# Altium integrated library Analog Devices Data Converters Analog-to-Digital Converters.IntLib: 2404 symbols (part 321 of 346)
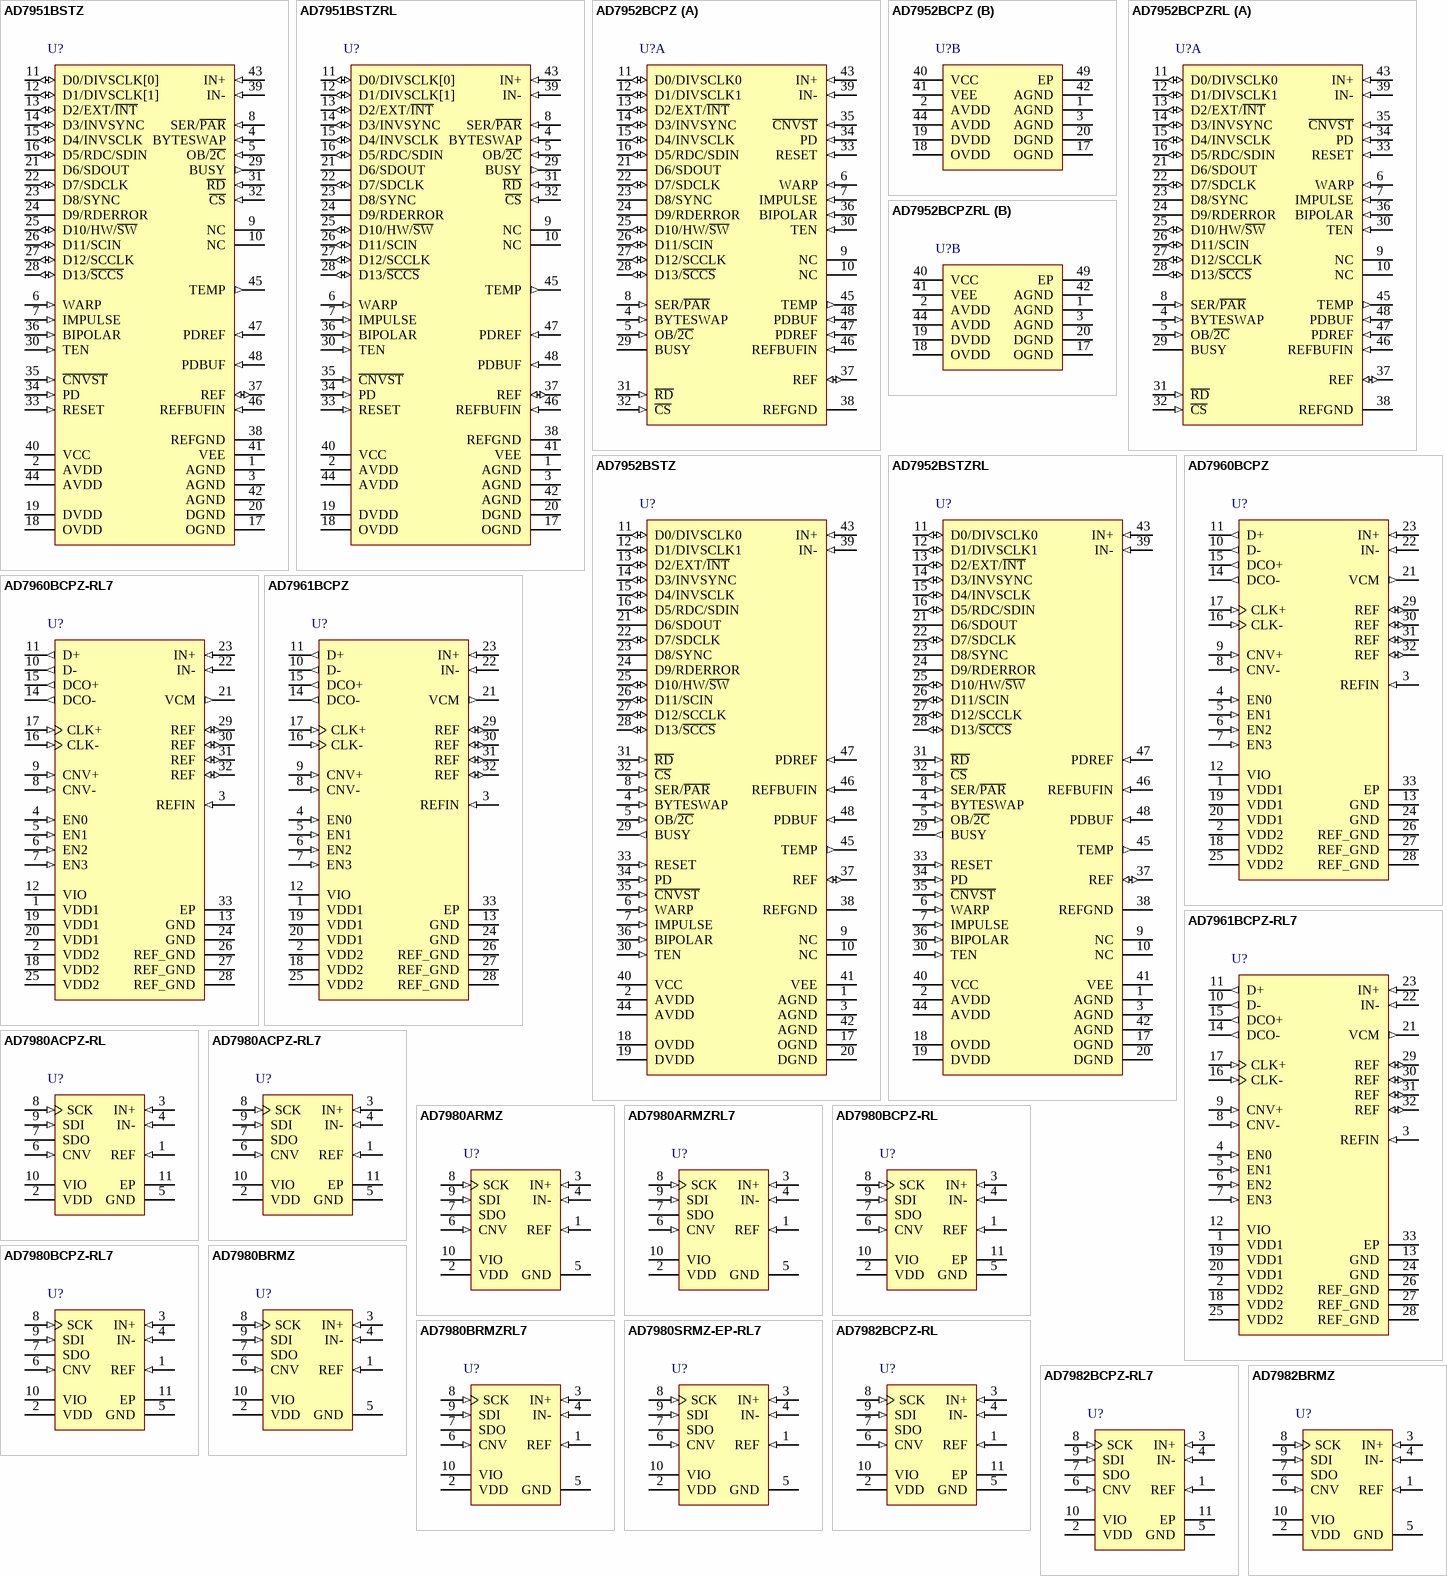
[diagram p327: symbols AD7951BSTZ to AD7982BRMZ]

## AD7952BCPZRL
designator U?
Single 14-Bit PulSAR Analog-to-Digital Converter with Parallel, Serial, SPI Interface, 1MSPS, -40 to +85 degC, CP-48-1, Pb-Free, Reel; Generic Part Number: AD7952; Manufacturer: Analog Devices; PartNumber: AD7952BCPZRL; Resolution (Bits): 14; Channels: 1; Throughput Rate (SPS): 1M; Interface: Par, Ser, SPI; DatasheetVersion: Rev.0; PackageVersion: Jan-2005; PackageReference: CP-48-1; PackageDescription: 48-Lead Lead Frame Chip Scale Package [LFCSP_VQ] 7 x 7 mm Body, Very Thin Quad; Supplier 1: Digi-Key; Supplier Part Number 1: AD7952BCPZRL-ND; Supplier 2: Mouser; Supplier Part Number 2: 584-AD7952BCPZR; RoHS: Y; Packing: Reel; Mounting Technology: Surface Mount; Code_JEDEC: MO-220-VKKD-2; ComponentLink1Description: Manufacturer URL; ComponentLink1URL: http://www.analog.com/en/index.html; ComponentLink2Description: Datasheet; ComponentLink2URL: http://www.analog.com/static/imported-files/data_sheets/AD7952.pdf; ComponentLink3Description: Package Specification; ComponentLink3URL: http://www.analog.com/static/imported-files/packages/PKG_PDF/LFCSP(CP)/CP-48/CP_48_1.pdf; ComponentLink4Description: Product URL; ComponentLink4URL: http://www.analog.com/en/analog-to-digital-converters/ad-converters/ad7952/products/product.html
footprint CP-48-1_N (QFN, 48-Leads, Body 7x7mm, Pitch 0.5mm, Thermal Pad 5.1x5.1mm, IPC Medium Density)
footprint CP-48-1_L (QFN, 48-Leads, Body 7x7mm, Pitch 0.5mm, Thermal Pad 5.1x5.1mm, IPC High Density)
footprint CP-48-1_M (QFN, 48-Leads, Body 7x7mm, Pitch 0.5mm, Thermal Pad 5.1x5.1mm, IPC Low Density)
part A pins: 4 BYTESWAP (in) "Parallel Mode Selection (8 Bit/14 Bit). When high, the LSB is output on D[15:8] and the MSB is output on D[7:0]; when low, the LSB is output on D[7:0] and the MSB is output on D[15:8].", 5 OB/~{2C} (in) "Straight Binary/Binary Twos Complement Output. When high, the digital output is straight binary. When low, the MSB is inverted resulting in a twos complement output from its internal shift register.", 6 WARP (in) "Conversion Mode Selection.", 7 IMPULSE (in) "Conversion Mode Selection. See the WARP pin description in this table. See the Modes of Operation section for a more detailed description.", 8 SER/~{PAR} (in) "Serial/Parallel Selection Input. When SER/P\A\R\ = low, the parallel mode is selected. When SER/P\A\R\ = high, the serial modes are selected. Some bits of the data bus are used as a serial port, and the remaining data bits (See Datasheet)", 9 NC "No Connect. Do not connect.", 10 NC "No Connect. Do not connect.", 11 D0/DIVSCLK0 (io) "In parallel mode, these outputs are used as Bit 0 of the parallel port data output bus. Serial Data Division Clock Selection. In serial master read after convert mode (SER/P\A\R\ = high, EXT/I\N\T\ = low, RDC/SDIN = low), (See Datasheet)", 12 D1/DIVSCLK1 (io) "In parallel mode, these outputs are used as Bit 1 of the parallel port data output bus. Serial Data Division Clock Selection. In serial master read after convert mode (SER/P\A\R\ = high, EXT/I\N\T\ = low, RDC/SDIN = low), (See Datasheet)", 13 D2/EXT/~{INT} (io) "In parallel mode, this output is used as Bit 2 of the parallel port data output bus. Serial Data Clock Source Select. In serial mode, this input is used to select the internally generated (master) or external (slave) serial (See Datasheet)", 14 D3/INVSYNC (io) "In parallel mode, this output is used as Bit 3 of the parallel port data output bus. Serial Data Invert Sync Select. In serial master mode (SER/P\A\R\ = high, EXT/I\N\T\ = low), this input is used to select the active state (See Datasheet)", 15 D4/INVSCLK (io) "In parallel mode, this output is used as Bit 4 of the parallel port data output bus. In all serial modes, invert SDCLK/SCCLK select. This input is used to invert both SDCLK and SCCLK. When INVSCLK = low, the rising edge of (See Datasheet)", 16 D5/RDC/SDIN (io) "In parallel mode, this output is used as Bit 5 of the parallel port data output bus. Serial Data Read During Convert. In serial master mode (SER/P\A\R\ = high, EXT/I\N\T\ = low), RDC is used to select the read mode. Refer to (See Datasheet)", 21 D6/SDOUT (hiz) "In parallel mode, this output is used as Bit 6 of the parallel port data output bus. Serial Data Output. In all serial modes, this pin is used as the serial data output synchronized to SDCLK.Conversion results are stored in (See Datasheet)", 22 D7/SDCLK (io) "In parallel mode, this output is used as Bit 7 of the parallel port data output bus. Serial Data Clock. In all serial modes, this pin is used as the serial data clock input or output, dependent on the logic state of the (See Datasheet)", 23 D8/SYNC (hiz) "In parallel mode, this output is used as Bit 8 of the parallel port data output bus. Serial Data Frame Synchronization. In serial master mode (SER/P\A\R\ = high, EXT/I\N\T\= low), this output is used as a digital output (See Datasheet)", 24 D9/RDERROR (hiz) "In parallel mode, this output is used as Bit 9 of the parallel port data output bus. Serial Data Read Error. In serial slave mode (SER/P\A\R\ = high, EXT/I\N\T\ = high), this output is used as an incomplete data read error (See Datasheet)", 25 D10/HW/~{SW} (io) "In parallel mode, this output is used as Bit 10 of the parallel port data output bus. Serial Configuration Hardware/Software Select. In serial mode, this input is used to configure the AD7952 by hardware or software. See the (See Datasheet)", 26 D11/SCIN (io) "In parallel mode, this output is used as Bit 11 of the parallel port data output bus. Serial Configuration Data Input. In serial software configuration mode (SER/P\A\R\ = high, HW/S\W\ = low),this input is used to serially (See Datasheet)", 27 D12/SCCLK (io) "In parallel mode, this output is used as Bit 12 of the parallel port data output bus. Serial Configuration Clock. In serial software configuration mode (SER/P\A\R\ = high, HW/S\W\ = low), this input is used to clock in the (See Datasheet)", 28 D13/~{SCCS} (io) "In parallel mode, this output is used as Bit 13 of the parallel port data output bus. Serial Configuration Chip Select. In serial software configuration mode (SER/P\A\R\ = high, HW/S\W\ = low), this input enables the serial (See Datasheet)", 29 BUSY (hiz) "Busy Output. Transitions high when a conversion is started and remains high until the conversion is completed and the data is latched into the on-chip shift register. The falling edge of BUSY can be used as a data-ready (See Datasheet)", 30 TEN (in) "Input Range Select.", 31 ~{RD} (in) "Read Data. When C\S\ and R\D\ are both low, the interface parallel or serial output bus is enabled.", 32 ~{CS} (in) "Chip Select. When C\S\ and R\D\ are both low, the interface parallel or serial output bus is enabled. C\S\ is also used to gate the external clock in slave serial mode (not used for serial configurable port).", 33 RESET (in) "Reset Input. When high, reset the AD7952. Current conversion, if any, is aborted. The falling edge of RESET resets the data outputs to all zeros (with OB/2\C\ = high) and clears the configuration register. See the Digital (See Datasheet)", 34 PD (in) "Power-Down Input. When PD = high, powers down the ADC. Power consumption is reduced and conversions are inhibited after the current one is completed. The digital interface remains active during power-down.", 35 ~{CNVST} (in) "Conversion Start. A falling edge on C\N\V\S\T\ puts the internal sample-and-hold into the hold state and initiates a conversion.", 36 BIPOLAR (in) "Input Range Select. See description for Pin 30.", 37 REF (io) "Reference Input/Output. When PDREF/PDBUF = low, the internal reference and buffer are enabled, producing 5 V on this pin. When PDREF/PDBUF = high, the internal reference and buffer are disabled, allowing an externally (See Datasheet)", 38 REFGND (power) "Reference Input Analog Ground. Connected to analog ground plane.", 39 IN- (in) "Analog Input. Referenced to IN+. In the 0 V to 5 V input range, IN- is between 0 V and VREF V centered about VREF/2. In the 0 V to 10 V range, IN- is between 0 V and 2 VREF V centered about VREF. In the +/-5 V and +/-10 V (See Datasheet)", 43 IN+ (in) "Analog Input. Referenced to IN-. In the 0 V to 5 V input range, IN+ is between 0 V and VREF V centered about VREF/2. In the 0 V to 10 V range, IN+ is between 0 V and 2 VREF V centered about VREF. In the +/-5 V and +/-10 V (See Datasheet)", 45 TEMP (out) "Temperature Sensor Analog Output. When the internal reference is enabled (PDREF = PDBUF = low), this pin outputs a voltage proportional to the temperature of the AD7952. See the Temperature Sensorsection.", 46 REFBUFIN (in) "Reference Buffer Input. When using an external reference with the internal reference buffer (PDBUF = low, PDREF = high), applying 2.5 V on this pin produces 5 V on the REF pin. See the Single-to-Differential Driver section.", 47 PDREF (in) "Internal Reference Power-Down Input. When low, the internal reference is enabled. When high, the internal reference is powered down, and an external reference must be used.", 48 PDBUF (in) "Internal Reference Buffer Power-Down Input. When low, the buffer is enabled (must be low when using internal reference). When high, the buffer is powered down."
part B pins: 1 AGND (power) "Analog Power Ground Pins. Ground reference point for all analog I/O. All analog I/O should be referenced to AGND and should be connected to the analog ground plane of the system. In addition, the AGND, DGND, and OGND (See Datasheet)", 2 AVDD (power) "Analog Power Pins. Nominally 4.75 V to 5.25 V and decoupled with 10 uF and 100 nF capacitors.", 3 AGND (power) "Analog Power Ground Pins. Ground reference point for all analog I/O. All analog I/O should be referenced to AGND and should be connected to the analog ground plane of the system. In addition, the AGND, DGND, and OGND (See Datasheet)", 17 OGND (power) "Input/Output Interface Digital Power Ground. Ground reference point for digital outputs. Should be connected to the system digital ground ideally at the same potential as AGND and DGND.", 18 OVDD (power) "Input/Output Interface Digital Power. Nominally at the same supply as the supply of the host interface 2.5 V, 3 V, or 5 V and decoupled with 10 uF and 100 nF capacitors.", 19 DVDD (power) "Digital Power. Nominally at 4.75 V to 5.25 V and decoupled with 10 uF and 100 nF capacitors. Can be supplied from AVDD.", 20 DGND (power) "Digital Power Ground. Ground reference point for digital outputs. Should be connected to system digital ground ideally at the same potential as AGND and OGND.", 40 VCC (power) "High Voltage Positive Supply. Normally 7 V to 15 V.", 41 VEE (power) "High Voltage Negative Supply. Normally 0 V to -15 V (0 V in unipolar ranges).", 42 AGND (power) "Analog Power Ground Pins. Ground reference point for all analog I/O. All analog I/O should be referenced to AGND and should be connected to the analog ground plane of the system. In addition, the AGND, DGND, and OGND (See Datasheet)", 44 AVDD (power) "Analog Power Pins. Nominally 4.75 V to 5.25 V and decoupled with 10 uF and 100 nF capacitors.", 49 EP (power) "Paddle connected to VEE. This connection is not required to meet the electrical performances."

## AD7952BSTZ
designator U?
Single 14-Bit PulSAR Analog-to-Digital Converter with Parallel, Serial, SPI Interface, 1MSPS, -40 to +85 degC, ST-48, Pb-Free, Tray; Generic Part Number: AD7952; Manufacturer: Analog Devices; PartNumber: AD7952BSTZ; Resolution (Bits): 14; Channels: 1; Throughput Rate (SPS): 1M; Interface: Par, Ser, SPI; DatasheetVersion: Rev.0; PackageVersion: revA; PackageReference: ST-48; PackageDescription: 48-Pin Thin Quad Flat Pack 0.5 mm Pitch; Supplier 1: Digi-Key; Supplier Part Number 1: AD7952BSTZ-ND; Supplier 2: Mouser; Supplier Part Number 2: 584-AD7952BSTZ; RoHS: Y; Packing: Tray; Mounting Technology: Surface Mount; ComponentLink1Description: Manufacturer URL; ComponentLink1URL: http://www.analog.com/en/index.html; ComponentLink2Description: Datasheet; ComponentLink2URL: http://www.analog.com/static/imported-files/data_sheets/AD7952.pdf; ComponentLink3Description: Package Specification; ComponentLink3URL: http://www.analog.com/static/imported-files/packages/PKG_PDF/LQFP%28ST%29/ST_48.pdf; ComponentLink4Description: Product URL; ComponentLink4URL: http://www.analog.com/en/analog-to-digital-converters/ad-converters/ad7952/products/product.html
footprint ST-48_N (Thin QFP, 48-Leads, Body 7x7mm, Pitch 0.5mm, IPC Medium Density)
footprint ST-48_L (Thin QFP, 48-Leads, Body 7x7mm, Pitch 0.5mm, IPC High Density)
footprint ST-48_M (Thin QFP, 48-Leads, Body 7x7mm, Pitch 0.5mm, IPC Low Density)
pins: 1 AGND (power) "Analog Power Ground Pins. Ground reference point for all analog I/O. All analog I/O should be referenced to AGND and should be connected to the analog ground plane of the system. In addition, the AGND, DGND, and OGND (See Datasheet)", 2 AVDD (power) "Analog Power Pins. Nominally 4.75 V to 5.25 V and decoupled with 10 uF and 100 nF capacitors.", 3 AGND (power) "Analog Power Ground Pins. Ground reference point for all analog I/O. All analog I/O should be referenced to AGND and should be connected to the analog ground plane of the system. In addition, the AGND, DGND, and OGND (See Datasheet)", 4 BYTESWAP (in) "Parallel Mode Selection (8 Bit/14 Bit). When high, the LSB is output on D[15:8] and the MSB is output on D[7:0]; when low, the LSB is output on D[7:0] and the MSB is output on D[15:8].", 5 OB/~{2C} (in) "Straight Binary/Binary Twos Complement Output. When high, the digital output is straight binary. When low, the MSB is inverted resulting in a twos complement output from its internal shift register.", 6 WARP (in) "Conversion Mode Selection.", 7 IMPULSE (in) "Conversion Mode Selection. See the WARP pin description in this table. See the Modes of Operation section for a more detailed description.", 8 SER/~{PAR} (in) "Serial/Parallel Selection Input. When SER/P\A\R\ = low, the parallel mode is selected. When SER/P\A\R\ = high, the serial modes are selected. Some bits of the data bus are used as a serial port, and the remaining data bits (See Datasheet)", 9 NC "No Connect. Do not connect.", 10 NC "No Connect. Do not connect.", 11 D0/DIVSCLK0 (io) "In parallel mode, these outputs are used as Bit 0 and Bit 1 of the parallel port data output bus. Serial Data Division Clock Selection. In serial master read after convert mode (SER/P\A\R\ = high, EXT/I\N\T\ = low, RDC/SDIN (See Datasheet)", 12 D1/DIVSCLK1 (io) "In parallel mode, these outputs are used as Bit 0 and Bit 1 of the parallel port data output bus. Serial Data Division Clock Selection. In serial master read after convert mode (SER/P\A\R\ = high, EXT/I\N\T\ = low, RDC/SDIN (See Datasheet)", 13 D2/EXT/~{INT} (io) "In parallel mode, this output is used as Bit 2 of the parallel port data output bus. Serial Data Clock Source Select. In serial mode, this input is used to select the internally generated (master) or external (slave) serial (See Datasheet)", 14 D3/INVSYNC (io) "In parallel mode, this output is used as Bit 3 of the parallel port data output bus. Serial Data Invert Sync Select. In serial master mode (SER/P\A\R\ = high, EXT/I\N\T\ = low), this input is used to select the active state (See Datasheet)", 15 D4/INVSCLK (io) "In parallel mode, this output is used as Bit 4 of the parallel port data output bus. In all serial modes, invert SDCLK/SCCLK select. This input is used to invert both SDCLK and SCCLK. When INVSCLK = low, the rising edge of (See Datasheet)", 16 D5/RDC/SDIN (io) "In parallel mode, this output is used as Bit 5 of the parallel port data output bus. Serial Data Read During Convert. In serial master mode (SER/P\A\R\ = high, EXT/I\N\T\ = low), RDC is used to select the read mode. Refer to (See Datasheet)", 17 OGND (power) "Input/Output Interface Digital Power Ground. Ground reference point for digital outputs. Should be connected to the system digital ground ideally at the same potential as AGND and DGND.", 18 OVDD (power) "Input/Output Interface Digital Power. Nominally at the same supply as the supply of the host interface 2.5 V, 3 V, or 5 V and decoupled with 10 uF and 100 nF capacitors.", 19 DVDD (power) "Digital Power. Nominally at 4.75 V to 5.25 V and decoupled with 10 uF and 100 nF capacitors. Can be supplied from AVDD.", 20 DGND (power) "Digital Power Ground. Ground reference point for digital outputs. Should be connected to system digital ground ideally at the same potential as AGND and OGND.", 21 D6/SDOUT (hiz) "In parallel mode, this output is used as Bit 6 of the parallel port data output bus. Serial Data Output. In all serial modes, this pin is used as the serial data output synchronized to SDCLK.Conversion results are stored in (See Datasheet)", 22 D7/SDCLK (io) "In parallel mode, this output is used as Bit 7 of the parallel port data output bus. Serial Data Clock. In all serial modes, this pin is used as the serial data clock input or output, dependent on the logic state of the (See Datasheet)", 23 D8/SYNC (hiz) "In parallel mode, this output is used as Bit 8 of the parallel port data output bus. Serial Data Frame Synchronization. In serial master mode (SER/P\A\R\ = high, EXT/I\N\T\= low), this output is used as a digital output (See Datasheet)", 24 D9/RDERROR (hiz) "In parallel mode, this output is used as Bit 9 of the parallel port data output bus. Serial Data Read Error. In serial slave mode (SER/P\A\R\ = high, EXT/I\N\T\ = high), this output is used as an incomplete data read error (See Datasheet)", 25 D10/HW/~{SW} (io) "In parallel mode, this output is used as Bit 10 of the parallel port data output bus. Serial Configuration Hardware/Software Select. In serial mode, this input is used to configure the AD7952 by hardware or software. See the (See Datasheet)", 26 D11/SCIN (io) "In parallel mode, this output is used as Bit 11 of the parallel port data output bus. Serial Configuration Data Input. In serial software configuration mode (SER/P\A\R\ = high, HW/S\W\ = low),this input is used to serially (See Datasheet)", 27 D12/SCCLK (io) "In parallel mode, this output is used as Bit 12 of the parallel port data output bus. Serial Configuration Clock. In serial software configuration mode (SER/P\A\R\ = high, HW/S\W\ = low), this input is used to clock in the (See Datasheet)", 28 D13/~{SCCS} (io) "In parallel mode, this output is used as Bit 13 of the parallel port data output bus. Serial Configuration Chip Select. In serial software configuration mode (SER/P\A\R\ = high, HW/S\W\ = low), this input enables the serial (See Datasheet)", 29 BUSY (out) "Busy Output. Transitions high when a conversion is started and remains high until the conversion is completed and the data is latched into the on-chip shift register. The falling edge of BUSY can be used as a data-ready (See Datasheet)", 30 TEN (in) "Input Range Select.", 31 ~{RD} (in) "Read Data. When C\S\ and R\D\ are both low, the interface parallel or serial output bus is enabled.", 32 ~{CS} (in) "Chip Select. When C\S\ and R\D\ are both low, the interface parallel or serial output bus is enabled. C\S\ is also used to gate the external clock in slave serial mode (not used for serial configurable port).", 33 RESET (in) "Reset Input. When high, reset the AD7952. Current conversion, if any, is aborted. The falling edge of RESET resets the data outputs to all zeros (with OB/2\C\ = high) and clears the configuration register. See the Digital (See Datasheet)", 34 PD (in) "Power-Down Input. When PD = high, powers down the ADC. Power consumption is reduced and conversions are inhibited after the current one is completed. The digital interface remains active during power-down.", 35 ~{CNVST} (in) "Conversion Start. A falling edge on C\N\V\S\T\ puts the internal sample-and-hold into the hold state and initiates a conversion.", 36 BIPOLAR (in) "Input Range Select. See description for Pin 30.", 37 REF (io) "Reference Input/Output. When PDREF/PDBUF = low, the internal reference and buffer are enabled, producing 5 V on this pin. When PDREF/PDBUF = high, the internal reference and buffer are disabled, allowing an externally (See Datasheet)", 38 REFGND (power) "Reference Input Analog Ground. Connected to analog ground plane.", 39 IN- (in) "Analog Input. Referenced to IN+. In the 0 V to 5 V input range, IN- is between 0 V and VREF V centered about VREF/2. In the 0 V to 10 V range, IN- is between 0 V and 2 VREF V centered about VREF. In the +/-5 V and +/-10 V (See Datasheet)", 40 VCC (power) "High Voltage Positive Supply. Normally 7 V to 15 V.", 41 VEE (power) "High Voltage Negative Supply. Normally 0 V to -15 V (0 V in unipolar ranges).", 42 AGND (power) "Analog Power Ground Pins. Ground reference point for all analog I/O. All analog I/O should be referenced to AGND and should be connected to the analog ground plane of the system. In addition, the AGND, DGND, and OGND (See Datasheet)", 43 IN+ (in) "Analog Input. Referenced to IN-. In the 0 V to 5 V input range, IN+ is between 0 V and VREF V centered about VREF/2. In the 0 V to 10 V range, IN+ is between 0 V and 2 VREF V centered about VREF. In the +/-5 V and +/-10 V (See Datasheet)", 44 AVDD (power) "Analog Power Pins. Nominally 4.75 V to 5.25 V and decoupled with 10 uF and 100 nF capacitors.", 45 TEMP (out) "Temperature Sensor Analog Output. When the internal reference is enabled (PDREF = PDBUF = low), this pin outputs a voltage proportional to the temperature of the AD7952. See the Temperature Sensorsection.", 46 REFBUFIN (in) "Reference Buffer Input. When using an external reference with the internal reference buffer (PDBUF = low, PDREF = high), applying 2.5 V on this pin produces 5 V on the REF pin. See the Single-to-Differential Driver section.", 47 PDREF (in) "Internal Reference Power-Down Input. When low, the internal reference is enabled. When high, the internal reference is powered down, and an external reference must be used.", 48 PDBUF (in) "Internal Reference Buffer Power-Down Input. When low, the buffer is enabled (must be low when using internal reference). When high, the buffer is powered down."

## AD7952BSTZRL
designator U?
Single 14-Bit PulSAR Analog-to-Digital Converter with Parallel, Serial, SPI Interface, 1MSPS, -40 to +85 degC, ST-48, Pb-Free, Reel; Generic Part Number: AD7952; Manufacturer: Analog Devices; PartNumber: AD7952BSTZRL; Resolution (Bits): 14; Channels: 1; Throughput Rate (SPS): 1M; Interface: Par, Ser, SPI; DatasheetVersion: Rev.0; PackageVersion: revA; PackageReference: ST-48; PackageDescription: 48-Pin Thin Quad Flat Pack 0.5 mm Pitch; Supplier 1: Digi-Key; Supplier Part Number 1: AD7952BSTZRL-ND; Supplier 2: Mouser; Supplier Part Number 2: 584-AD7952BSTZR; RoHS: Y; Packing: Reel; Mounting Technology: Surface Mount; ComponentLink1Description: Manufacturer URL; ComponentLink1URL: http://www.analog.com/en/index.html; ComponentLink2Description: Datasheet; ComponentLink2URL: http://www.analog.com/static/imported-files/data_sheets/AD7952.pdf; ComponentLink3Description: Package Specification; ComponentLink3URL: http://www.analog.com/static/imported-files/packages/PKG_PDF/LQFP%28ST%29/ST_48.pdf; ComponentLink4Description: Product URL; ComponentLink4URL: http://www.analog.com/en/analog-to-digital-converters/ad-converters/ad7952/products/product.html
footprint ST-48_N (Thin QFP, 48-Leads, Body 7x7mm, Pitch 0.5mm, IPC Medium Density)
footprint ST-48_L (Thin QFP, 48-Leads, Body 7x7mm, Pitch 0.5mm, IPC High Density)
footprint ST-48_M (Thin QFP, 48-Leads, Body 7x7mm, Pitch 0.5mm, IPC Low Density)
pins: 1 AGND (power) "Analog Power Ground Pins. Ground reference point for all analog I/O. All analog I/O should be referenced to AGND and should be connected to the analog ground plane of the system. In addition, the AGND, DGND, and OGND (See Datasheet)", 2 AVDD (power) "Analog Power Pins. Nominally 4.75 V to 5.25 V and decoupled with 10 uF and 100 nF capacitors.", 3 AGND (power) "Analog Power Ground Pins. Ground reference point for all analog I/O. All analog I/O should be referenced to AGND and should be connected to the analog ground plane of the system. In addition, the AGND, DGND, and OGND (See Datasheet)", 4 BYTESWAP (in) "Parallel Mode Selection (8 Bit/14 Bit). When high, the LSB is output on D[15:8] and the MSB is output on D[7:0]; when low, the LSB is output on D[7:0] and the MSB is output on D[15:8].", 5 OB/~{2C} (in) "Straight Binary/Binary Twos Complement Output. When high, the digital output is straight binary. When low, the MSB is inverted resulting in a twos complement output from its internal shift register.", 6 WARP (in) "Conversion Mode Selection.", 7 IMPULSE (in) "Conversion Mode Selection. See the WARP pin description in this table. See the Modes of Operation section for a more detailed description.", 8 SER/~{PAR} (in) "Serial/Parallel Selection Input. When SER/P\A\R\ = low, the parallel mode is selected. When SER/P\A\R\ = high, the serial modes are selected. Some bits of the data bus are used as a serial port, and the remaining data bits (See Datasheet)", 9 NC "No Connect. Do not connect.", 10 NC "No Connect. Do not connect.", 11 D0/DIVSCLK0 (io) "In parallel mode, these outputs are used as Bit 0 and Bit 1 of the parallel port data output bus. Serial Data Division Clock Selection. In serial master read after convert mode (SER/P\A\R\ = high, EXT/I\N\T\ = low, RDC/SDIN (See Datasheet)", 12 D1/DIVSCLK1 (io) "In parallel mode, these outputs are used as Bit 0 and Bit 1 of the parallel port data output bus. Serial Data Division Clock Selection. In serial master read after convert mode (SER/P\A\R\ = high, EXT/I\N\T\ = low, RDC/SDIN (See Datasheet)", 13 D2/EXT/~{INT} (io) "In parallel mode, this output is used as Bit 2 of the parallel port data output bus. Serial Data Clock Source Select. In serial mode, this input is used to select the internally generated (master) or external (slave) serial (See Datasheet)", 14 D3/INVSYNC (io) "In parallel mode, this output is used as Bit 3 of the parallel port data output bus. Serial Data Invert Sync Select. In serial master mode (SER/P\A\R\ = high, EXT/I\N\T\ = low), this input is used to select the active state (See Datasheet)", 15 D4/INVSCLK (io) "In parallel mode, this output is used as Bit 4 of the parallel port data output bus. In all serial modes, invert SDCLK/SCCLK select. This input is used to invert both SDCLK and SCCLK. When INVSCLK = low, the rising edge of (See Datasheet)", 16 D5/RDC/SDIN (io) "In parallel mode, this output is used as Bit 5 of the parallel port data output bus. Serial Data Read During Convert. In serial master mode (SER/P\A\R\ = high, EXT/I\N\T\ = low), RDC is used to select the read mode. Refer to (See Datasheet)", 17 OGND (power) "Input/Output Interface Digital Power Ground. Ground reference point for digital outputs. Should be connected to the system digital ground ideally at the same potential as AGND and DGND.", 18 OVDD (power) "Input/Output Interface Digital Power. Nominally at the same supply as the supply of the host interface 2.5 V, 3 V, or 5 V and decoupled with 10 uF and 100 nF capacitors.", 19 DVDD (power) "Digital Power. Nominally at 4.75 V to 5.25 V and decoupled with 10 uF and 100 nF capacitors. Can be supplied from AVDD.", 20 DGND (power) "Digital Power Ground. Ground reference point for digital outputs. Should be connected to system digital ground ideally at the same potential as AGND and OGND.", 21 D6/SDOUT (hiz) "In parallel mode, this output is used as Bit 6 of the parallel port data output bus. Serial Data Output. In all serial modes, this pin is used as the serial data output synchronized to SDCLK.Conversion results are stored in (See Datasheet)", 22 D7/SDCLK (io) "In parallel mode, this output is used as Bit 7 of the parallel port data output bus. Serial Data Clock. In all serial modes, this pin is used as the serial data clock input or output, dependent on the logic state of the (See Datasheet)", 23 D8/SYNC (hiz) "In parallel mode, this output is used as Bit 8 of the parallel port data output bus. Serial Data Frame Synchronization. In serial master mode (SER/P\A\R\ = high, EXT/I\N\T\= low), this output is used as a digital output (See Datasheet)", 24 D9/RDERROR (hiz) "In parallel mode, this output is used as Bit 9 of the parallel port data output bus. Serial Data Read Error. In serial slave mode (SER/P\A\R\ = high, EXT/I\N\T\ = high), this output is used as an incomplete data read error (See Datasheet)", 25 D10/HW/~{SW} (io) "In parallel mode, this output is used as Bit 10 of the parallel port data output bus. Serial Configuration Hardware/Software Select. In serial mode, this input is used to configure the AD7952 by hardware or software. See the (See Datasheet)", 26 D11/SCIN (io) "In parallel mode, this output is used as Bit 11 of the parallel port data output bus. Serial Configuration Data Input. In serial software configuration mode (SER/P\A\R\ = high, HW/S\W\ = low),this input is used to serially (See Datasheet)", 27 D12/SCCLK (io) "In parallel mode, this output is used as Bit 12 of the parallel port data output bus. Serial Configuration Clock. In serial software configuration mode (SER/P\A\R\ = high, HW/S\W\ = low), this input is used to clock in the (See Datasheet)", 28 D13/~{SCCS} (io) "In parallel mode, this output is used as Bit 13 of the parallel port data output bus. Serial Configuration Chip Select. In serial software configuration mode (SER/P\A\R\ = high, HW/S\W\ = low), this input enables the serial (See Datasheet)", 29 BUSY (out) "Busy Output. Transitions high when a conversion is started and remains high until the conversion is completed and the data is latched into the on-chip shift register. The falling edge of BUSY can be used as a data-ready (See Datasheet)", 30 TEN (in) "Input Range Select.", 31 ~{RD} (in) "Read Data. When C\S\ and R\D\ are both low, the interface parallel or serial output bus is enabled.", 32 ~{CS} (in) "Chip Select. When C\S\ and R\D\ are both low, the interface parallel or serial output bus is enabled. C\S\ is also used to gate the external clock in slave serial mode (not used for serial configurable port).", 33 RESET (in) "Reset Input. When high, reset the AD7952. Current conversion, if any, is aborted. The falling edge of RESET resets the data outputs to all zeros (with OB/2\C\ = high) and clears the configuration register. See the Digital (See Datasheet)", 34 PD (in) "Power-Down Input. When PD = high, powers down the ADC. Power consumption is reduced and conversions are inhibited after the current one is completed. The digital interface remains active during power-down.", 35 ~{CNVST} (in) "Conversion Start. A falling edge on C\N\V\S\T\ puts the internal sample-and-hold into the hold state and initiates a conversion.", 36 BIPOLAR (in) "Input Range Select. See description for Pin 30.", 37 REF (io) "Reference Input/Output. When PDREF/PDBUF = low, the internal reference and buffer are enabled, producing 5 V on this pin. When PDREF/PDBUF = high, the internal reference and buffer are disabled, allowing an externally (See Datasheet)", 38 REFGND (power) "Reference Input Analog Ground. Connected to analog ground plane.", 39 IN- (in) "Analog Input. Referenced to IN+. In the 0 V to 5 V input range, IN- is between 0 V and VREF V centered about VREF/2. In the 0 V to 10 V range, IN- is between 0 V and 2 VREF V centered about VREF. In the +/-5 V and +/-10 V (See Datasheet)", 40 VCC (power) "High Voltage Positive Supply. Normally 7 V to 15 V.", 41 VEE (power) "High Voltage Negative Supply. Normally 0 V to -15 V (0 V in unipolar ranges).", 42 AGND (power) "Analog Power Ground Pins. Ground reference point for all analog I/O. All analog I/O should be referenced to AGND and should be connected to the analog ground plane of the system. In addition, the AGND, DGND, and OGND (See Datasheet)", 43 IN+ (in) "Analog Input. Referenced to IN-. In the 0 V to 5 V input range, IN+ is between 0 V and VREF V centered about VREF/2. In the 0 V to 10 V range, IN+ is between 0 V and 2 VREF V centered about VREF. In the +/-5 V and +/-10 V (See Datasheet)", 44 AVDD (power) "Analog Power Pins. Nominally 4.75 V to 5.25 V and decoupled with 10 uF and 100 nF capacitors.", 45 TEMP (out) "Temperature Sensor Analog Output. When the internal reference is enabled (PDREF = PDBUF = low), this pin outputs a voltage proportional to the temperature of the AD7952. See the Temperature Sensorsection.", 46 REFBUFIN (in) "Reference Buffer Input. When using an external reference with the internal reference buffer (PDBUF = low, PDREF = high), applying 2.5 V on this pin produces 5 V on the REF pin. See the Single-to-Differential Driver section.", 47 PDREF (in) "Internal Reference Power-Down Input. When low, the internal reference is enabled. When high, the internal reference is powered down, and an external reference must be used.", 48 PDBUF (in) "Internal Reference Buffer Power-Down Input. When low, the buffer is enabled (must be low when using internal reference). When high, the buffer is powered down."

## AD7960BCPZ
designator U?
Single 18-Bit PulSAR Differential Analog-to-Digital Converter with Serial LVDS Interface, 5 MSPS, -40 to 85 degC, CP-32-7, RoHS, Tray; Manufacturer: Analog Devices; PartNumber: AD7960BCPZ; Resolution: 18 Bits; # of Channels: 1; Full Power BW: 28 MHz; ADC_Sample_Rate: 5 MSPS; Dynamic Range: 100 dB; DatasheetVersion: Rev. A; PackageVersion: 112408-A; PackageReference: CP-32-7; PackageDescription: 32-Pin Lead Frame Chip Scale Package, Body 5 x 5 mm, Pitch 0.5 mm; Throughput Rate: 5 MSPS; Temperature Range: -40 to 85 degC; RoHS: TRUE; Packing: Tray; Mounting Technology: Surface Mount; ComponentLink1Description: Manufacturer URL; ComponentLink1URL: http://www.analog.com/en/index.html; ComponentLink2Description: Datasheet; ComponentLink2URL: http://www.analog.com/static/imported-files/data_sheets/AD7960.pdf; ComponentLink3Description: Package Specification; ComponentLink3URL: http://www.analog.com/static/imported-files/packages/CP_32_7.pdf
footprint ADI-CP-32-7_N (QFN, 32-Leads, Body 5x5mm, Pitch 0.5mm, Thermal Pad 3.1x3.1mm, IPC Medium Density)
footprint ADI-CP-32-7_L (QFN, 32-Leads, Body 5x5mm, Pitch 0.5mm, Thermal Pad 3.1x3.1mm, IPC High Density)
footprint ADI-CP-32-7_M (QFN, 32-Leads, Body 5x5mm, Pitch 0.5mm, Thermal Pad 3.1x3.1mm, IPC Low Density)
pins: 1 VDD1 (power) "Analog 5 V Supply. Decouple the 5 V supply with a 100 nF capacitor.", 2 VDD2 (power) "Analog 1.8 V Supply. Decouple this pin with a 100 nF capacitor.", 3 REFIN (in) "Prebuffer Reference Voltage.", 4 EN0 (in) "Enable.The logic levels of these pins set the operation of the device, as described in Table 9.", 5 EN1 (in) "Enable.The logic levels of these pins set the operation of the device, as described in Table 9.", 6 EN2 (in) "Enable.The logic levels of these pins set the operation of the device, as described in Table 9.", 7 EN3 (in) "Enable.The logic levels of these pins set the operation of the device, as described in Table 9.", 8 CNV- (in) "Convert Input. These pins act as the conversion control pin.", 9 CNV+ (in) "Convert Input. These pins act as the conversion control pin.", 10 D- (out) "LVDS Data Outputs. The conversion data is output serially on these pins.", 11 D+ (out) "LVDS Data Outputs. The conversion data is output serially on these pins.", 12 VIO (power) "Input/Output Interface Supply. Use a 1.8 V supply and decouple this pin with a 100 nF capacitor", 13 GND (power) "Ground.", 14 DCO- (out) "LVDS Buffered Clock Outputs.", 15 DCO+ (out) "LVDS Buffered Clock Outputs.", 16 CLK- (in) "LVDS Clock Inputs. This clock shifts out the conversion results on the falling edge of CLK+.", 17 CLK+ (in) "LVDS Clock Inputs. This clock shifts out the conversion results on the falling edge of CLK+.", 18 VDD2 (power) "Analog 1.8 V Supply. Decouple this pin with a 100 nF capacitor.", 19 VDD1 (power) "Analog 5 V Supply. Decouple the 5 V supply with a 100 nF capacitor.", 20 VDD1 (power) "Analog 5 V Supply. Decouple the 5 V supply with a 100 nF capacitor.", 21 VCM (out) "Common-Mode Output. When using any reference scheme, this pin produces one-half the voltage present on the REF pin, which can be useful for driving the common mode of the input amplifiers.", 22 IN- (in) "Differential Negative Analog Input. Referenced to and must be driven 180degC out of phase with IN+.", 23 IN+ (in) "Differential Positive Analog Input. Referenced to and must be driven 180degC out of phase with IN-.", 24 GND (power) "Ground.", 25 VDD2 (power) "Analog 1.8 V Supply. Decouple this pin with a 100 nF capacitor.", 26 REF_GND (power) "Reference Ground. Connect the capacitors on the REF pin between REF and REF_GND. Tie REF_GND to GND.", 27 REF_GND (power) "Reference Ground. Connect the capacitors on the REF pin between REF and REF_GND. Tie REF_GND to GND.", 28 REF_GND (power) "Reference Ground. Connect the capacitors on the REF pin between REF and REF_GND. Tie REF_GND to GND.", 29 REF (io) "Buffered Reference Voltage.", 30 REF (io) "Buffered Reference Voltage.", 31 REF (io) "Buffered Reference Voltage.", 32 REF (io) "Buffered Reference Voltage.", 33 EP (power) ""Exposed Pad. The exposed pad is located on the underside of the package. Connect the exposed pad"

## AD7960BCPZ-RL7
designator U?
Single 18-Bit PulSAR Differential Analog-to-Digital Converter with Serial LVDS Interface, 5 MSPS, -40 to 85 degC, CP-32-7, RoHS, Reel; Manufacturer: Analog Devices; PartNumber: AD7960BCPZ-RL7; Resolution: 18 Bits; # of Channels: 1; Full Power BW: 28 MHz; ADC_Sample_Rate: 5 MSPS; Dynamic Range: 100 dB; DatasheetVersion: Rev. A; PackageVersion: 112408-A; PackageReference: CP-32-7; PackageDescription: 32-Pin Lead Frame Chip Scale Package, Body 5 x 5 mm, Pitch 0.5 mm; Throughput Rate: 5 MSPS; Temperature Range: -40 to 85 degC; RoHS: TRUE; Packing: Reel; Mounting Technology: Surface Mount; ComponentLink1Description: Manufacturer URL; ComponentLink1URL: http://www.analog.com/en/index.html; ComponentLink2Description: Datasheet; ComponentLink2URL: http://www.analog.com/static/imported-files/data_sheets/AD7960.pdf; ComponentLink3Description: Package Specification; ComponentLink3URL: http://www.analog.com/static/imported-files/packages/CP_32_7.pdf
footprint ADI-CP-32-7_N (QFN, 32-Leads, Body 5x5mm, Pitch 0.5mm, Thermal Pad 3.1x3.1mm, IPC Medium Density)
footprint ADI-CP-32-7_L (QFN, 32-Leads, Body 5x5mm, Pitch 0.5mm, Thermal Pad 3.1x3.1mm, IPC High Density)
footprint ADI-CP-32-7_M (QFN, 32-Leads, Body 5x5mm, Pitch 0.5mm, Thermal Pad 3.1x3.1mm, IPC Low Density)
pins: 1 VDD1 (power) "Analog 5 V Supply. Decouple the 5 V supply with a 100 nF capacitor.", 2 VDD2 (power) "Analog 1.8 V Supply. Decouple this pin with a 100 nF capacitor.", 3 REFIN (in) "Prebuffer Reference Voltage.", 4 EN0 (in) "Enable.The logic levels of these pins set the operation of the device, as described in Table 9.", 5 EN1 (in) "Enable.The logic levels of these pins set the operation of the device, as described in Table 9.", 6 EN2 (in) "Enable.The logic levels of these pins set the operation of the device, as described in Table 9.", 7 EN3 (in) "Enable.The logic levels of these pins set the operation of the device, as described in Table 9.", 8 CNV- (in) "Convert Input. These pins act as the conversion control pin.", 9 CNV+ (in) "Convert Input. These pins act as the conversion control pin.", 10 D- (out) "LVDS Data Outputs. The conversion data is output serially on these pins.", 11 D+ (out) "LVDS Data Outputs. The conversion data is output serially on these pins.", 12 VIO (power) "Input/Output Interface Supply. Use a 1.8 V supply and decouple this pin with a 100 nF capacitor", 13 GND (power) "Ground.", 14 DCO- (out) "LVDS Buffered Clock Outputs.", 15 DCO+ (out) "LVDS Buffered Clock Outputs.", 16 CLK- (in) "LVDS Clock Inputs. This clock shifts out the conversion results on the falling edge of CLK+.", 17 CLK+ (in) "LVDS Clock Inputs. This clock shifts out the conversion results on the falling edge of CLK+.", 18 VDD2 (power) "Analog 1.8 V Supply. Decouple this pin with a 100 nF capacitor.", 19 VDD1 (power) "Analog 5 V Supply. Decouple the 5 V supply with a 100 nF capacitor.", 20 VDD1 (power) "Analog 5 V Supply. Decouple the 5 V supply with a 100 nF capacitor.", 21 VCM (out) "Common-Mode Output. When using any reference scheme, this pin produces one-half the voltage present on the REF pin, which can be useful for driving the common mode of the input amplifiers.", 22 IN- (in) "Differential Negative Analog Input. Referenced to and must be driven 180degC out of phase with IN+.", 23 IN+ (in) "Differential Positive Analog Input. Referenced to and must be driven 180degC out of phase with IN-.", 24 GND (power) "Ground.", 25 VDD2 (power) "Analog 1.8 V Supply. Decouple this pin with a 100 nF capacitor.", 26 REF_GND (power) "Reference Ground. Connect the capacitors on the REF pin between REF and REF_GND. Tie REF_GND to GND.", 27 REF_GND (power) "Reference Ground. Connect the capacitors on the REF pin between REF and REF_GND. Tie REF_GND to GND.", 28 REF_GND (power) "Reference Ground. Connect the capacitors on the REF pin between REF and REF_GND. Tie REF_GND to GND.", 29 REF (io) "Buffered Reference Voltage.", 30 REF (io) "Buffered Reference Voltage.", 31 REF (io) "Buffered Reference Voltage.", 32 REF (io) "Buffered Reference Voltage.", 33 EP (power) ""Exposed Pad. The exposed pad is located on the underside of the package. Connect the exposed pad"

## AD7961BCPZ
designator U?
Single 16-Bit PulSAR Differential Analog-to-Digital Converter with Serial LVDS Interface, 5 MSPS, -40 to 85 degC, CP-32-7, RoHS, Tray; Manufacturer: Analog Devices; PartNumber: AD7961BCPZ; Resolution: 16 Bits; # of Channels: 1; Full Power BW: 28 MHz; ADC_Sample_Rate: 5 MSPS; Dynamic Range: 96 dB; DatasheetVersion: Rev. A; PackageVersion: 112408-A; PackageReference: CP-32-7; PackageDescription: 32-Pin Lead Frame Chip Scale Package, Body 5 x 5 mm, Pitch 0.5 mm; Throughput Rate: 5 MSPS; Temperature Range: -40 to 85 degC; RoHS: TRUE; Packing: Tray; Mounting Technology: Surface Mount; ComponentLink1Description: Manufacturer URL; ComponentLink1URL: http://www.analog.com/en/index.html; ComponentLink2Description: Datasheet; ComponentLink2URL: http://www.analog.com/static/imported-files/data_sheets/AD7961.pdf; ComponentLink3Description: Package Specification; ComponentLink3URL: http://www.analog.com/static/imported-files/packages/CP_32_7.pdf
footprint ADI-CP-32-7_N (QFN, 32-Leads, Body 5x5mm, Pitch 0.5mm, Thermal Pad 3.1x3.1mm, IPC Medium Density)
footprint ADI-CP-32-7_L (QFN, 32-Leads, Body 5x5mm, Pitch 0.5mm, Thermal Pad 3.1x3.1mm, IPC High Density)
footprint ADI-CP-32-7_M (QFN, 32-Leads, Body 5x5mm, Pitch 0.5mm, Thermal Pad 3.1x3.1mm, IPC Low Density)
pins: 1 VDD1 (power) "Analog 5 V Supply. Decouple the 5 V supply with a 100 nF capacitor.", 2 VDD2 (power) "Analog 1.8 V Supply. Decouple this pin with a 100 nF capacitor.", 3 REFIN (in) "Prebuffer Reference Voltage.", 4 EN0 (in) "Enable.The logic levels of these pins set the operation of the device, as described in Table 9.", 5 EN1 (in) "Enable.The logic levels of these pins set the operation of the device, as described in Table 9.", 6 EN2 (in) "Enable.The logic levels of these pins set the operation of the device, as described in Table 9.", 7 EN3 (in) "Enable.The logic levels of these pins set the operation of the device, as described in Table 9.", 8 CNV- (in) "Convert Input. These pins act as the conversion control pin.", 9 CNV+ (in) "Convert Input. These pins act as the conversion control pin.", 10 D- (out) "LVDS Data Outputs. The conversion data is output serially on these pins.", 11 D+ (out) "LVDS Data Outputs. The conversion data is output serially on these pins.", 12 VIO (power) "Input/Output Interface Supply. Use a 1.8 V supply and decouple this pin with a 100 nF capacitor", 13 GND (power) "Ground.", 14 DCO- (out) "LVDS Buffered Clock Outputs.", 15 DCO+ (out) "LVDS Buffered Clock Outputs.", 16 CLK- (in) "LVDS Clock Inputs. This clock shifts out the conversion results on the falling edge of CLK+.", 17 CLK+ (in) "LVDS Clock Inputs. This clock shifts out the conversion results on the falling edge of CLK+.", 18 VDD2 (power) "Analog 1.8 V Supply. Decouple this pin with a 100 nF capacitor.", 19 VDD1 (power) "Analog 5 V Supply. Decouple the 5 V supply with a 100 nF capacitor.", 20 VDD1 (power) "Analog 5 V Supply. Decouple the 5 V supply with a 100 nF capacitor.", 21 VCM (out) "Common-Mode Output. When using any reference scheme, this pin produces one-half the voltage present on the REF pin, which can be useful for driving the common mode of the input amplifiers.", 22 IN- (in) "Differential Negative Analog Input. Referenced to and must be driven 180degC out of phase with IN+.", 23 IN+ (in) "Differential Positive Analog Input. Referenced to and must be driven 180degC out of phase with IN-.", 24 GND (power) "Ground.", 25 VDD2 (power) "Analog 1.8 V Supply. Decouple this pin with a 100 nF capacitor.", 26 REF_GND (power) "Reference Ground. Connect the capacitors on the REF pin between REF and REF_GND. Tie REF_GND to GND.", 27 REF_GND (power) "Reference Ground. Connect the capacitors on the REF pin between REF and REF_GND. Tie REF_GND to GND.", 28 REF_GND (power) "Reference Ground. Connect the capacitors on the REF pin between REF and REF_GND. Tie REF_GND to GND.", 29 REF (io) "Buffered Reference Voltage.", 30 REF (io) "Buffered Reference Voltage.", 31 REF (io) "Buffered Reference Voltage.", 32 REF (io) "Buffered Reference Voltage.", 33 EP (power) ""Exposed Pad. The exposed pad is located on the underside of the package. Connect the exposed pad"

## AD7961BCPZ-RL7
designator U?
Single 16-Bit PulSAR Differential Analog-to-Digital Converter with Serial LVDS Interface, 5 MSPS, -40 to 85 degC, CP-32-7, RoHS, Reel; Manufacturer: Analog Devices; PartNumber: AD7961BCPZ-RL7; Resolution: 16 Bits; # of Channels: 1; Full Power BW: 28 MHz; ADC_Sample_Rate: 5 MSPS; Dynamic Range: 96 dB; DatasheetVersion: Rev. A; PackageVersion: 112408-A; PackageReference: CP-32-7; PackageDescription: 32-Pin Lead Frame Chip Scale Package, Body 5 x 5 mm, Pitch 0.5 mm; Throughput Rate: 5 MSPS; Temperature Range: -40 to 85 degC; RoHS: TRUE; Packing: Reel; Mounting Technology: Surface Mount; ComponentLink1Description: Manufacturer URL; ComponentLink1URL: http://www.analog.com/en/index.html; ComponentLink2Description: Datasheet; ComponentLink2URL: http://www.analog.com/static/imported-files/data_sheets/AD7961.pdf; ComponentLink3Description: Package Specification; ComponentLink3URL: http://www.analog.com/static/imported-files/packages/CP_32_7.pdf
footprint ADI-CP-32-7_N (QFN, 32-Leads, Body 5x5mm, Pitch 0.5mm, Thermal Pad 3.1x3.1mm, IPC Medium Density)
footprint ADI-CP-32-7_L (QFN, 32-Leads, Body 5x5mm, Pitch 0.5mm, Thermal Pad 3.1x3.1mm, IPC High Density)
footprint ADI-CP-32-7_M (QFN, 32-Leads, Body 5x5mm, Pitch 0.5mm, Thermal Pad 3.1x3.1mm, IPC Low Density)
pins: 1 VDD1 (power) "Analog 5 V Supply. Decouple the 5 V supply with a 100 nF capacitor.", 2 VDD2 (power) "Analog 1.8 V Supply. Decouple this pin with a 100 nF capacitor.", 3 REFIN (in) "Prebuffer Reference Voltage.", 4 EN0 (in) "Enable.The logic levels of these pins set the operation of the device, as described in Table 9.", 5 EN1 (in) "Enable.The logic levels of these pins set the operation of the device, as described in Table 9.", 6 EN2 (in) "Enable.The logic levels of these pins set the operation of the device, as described in Table 9.", 7 EN3 (in) "Enable.The logic levels of these pins set the operation of the device, as described in Table 9.", 8 CNV- (in) "Convert Input. These pins act as the conversion control pin.", 9 CNV+ (in) "Convert Input. These pins act as the conversion control pin.", 10 D- (out) "LVDS Data Outputs. The conversion data is output serially on these pins.", 11 D+ (out) "LVDS Data Outputs. The conversion data is output serially on these pins.", 12 VIO (power) "Input/Output Interface Supply. Use a 1.8 V supply and decouple this pin with a 100 nF capacitor", 13 GND (power) "Ground.", 14 DCO- (out) "LVDS Buffered Clock Outputs.", 15 DCO+ (out) "LVDS Buffered Clock Outputs.", 16 CLK- (in) "LVDS Clock Inputs. This clock shifts out the conversion results on the falling edge of CLK+.", 17 CLK+ (in) "LVDS Clock Inputs. This clock shifts out the conversion results on the falling edge of CLK+.", 18 VDD2 (power) "Analog 1.8 V Supply. Decouple this pin with a 100 nF capacitor.", 19 VDD1 (power) "Analog 5 V Supply. Decouple the 5 V supply with a 100 nF capacitor.", 20 VDD1 (power) "Analog 5 V Supply. Decouple the 5 V supply with a 100 nF capacitor.", 21 VCM (out) "Common-Mode Output. When using any reference scheme, this pin produces one-half the voltage present on the REF pin, which can be useful for driving the common mode of the input amplifiers.", 22 IN- (in) "Differential Negative Analog Input. Referenced to and must be driven 180degC out of phase with IN+.", 23 IN+ (in) "Differential Positive Analog Input. Referenced to and must be driven 180degC out of phase with IN-.", 24 GND (power) "Ground.", 25 VDD2 (power) "Analog 1.8 V Supply. Decouple this pin with a 100 nF capacitor.", 26 REF_GND (power) "Reference Ground. Connect the capacitors on the REF pin between REF and REF_GND. Tie REF_GND to GND.", 27 REF_GND (power) "Reference Ground. Connect the capacitors on the REF pin between REF and REF_GND. Tie REF_GND to GND.", 28 REF_GND (power) "Reference Ground. Connect the capacitors on the REF pin between REF and REF_GND. Tie REF_GND to GND.", 29 REF (io) "Buffered Reference Voltage.", 30 REF (io) "Buffered Reference Voltage.", 31 REF (io) "Buffered Reference Voltage.", 32 REF (io) "Buffered Reference Voltage.", 33 EP (power) ""Exposed Pad. The exposed pad is located on the underside of the package. Connect the exposed pad"